# EAGLE library part LT3686HDDPBF (library lineartechnology)
37V/1.2A Step-DownRegulator in 3mm × 3mm DFN
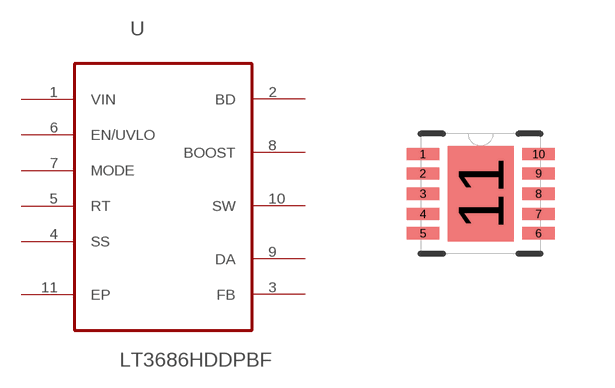
[diagram p2: symbol with the pads of DFN300X300X80-11N; footprint DFN300X300X80-11N]

Designator prefix U

## LT3686HDDPBF (MPN: LT3686HDD#PBF; OC_FARNELL: 2294943; OC_NEWARK: 78R8986; PACKAGE: DFN-10; SUPPLIER: Linear Technology)  [DFN300X300X80-11N]
1  VIN  pwr
2  BD  in
3  FB  in
4  SS  in
5  RT  in
6  EN/UVLO  in
7  MODE  in
8  BOOST  pwr
9  DA  in
10  SW  out
11  EP  pas

## Footprint DFN300X300X80-11N (pad centres in mm)
smd 0.813 x 0.305: 1 -1.448,0.991; 2 -1.448,0.508; 3 -1.448,0; 4 -1.448,-0.508; 5 -1.448,-0.991; 6 1.448,-0.991; 7 1.448,-0.508; 8 1.448,0; 9 1.448,0.508; 10 1.448,0.991
smd 1.651 x 2.388: 11 0,0